# Altium footprint library SOIC.PcbLib: 20 footprints (part 1 of 2)
Each footprint in its own frame and in the unit in brackets; x right, y up, seen from the top. Pads: shape width x height; smd on the part's side, far side on the other; paste and mask are expansions set on the pad; w line width, h text height; cw(c..) or ccw(c..) is an arc to the next point about the centre after c.
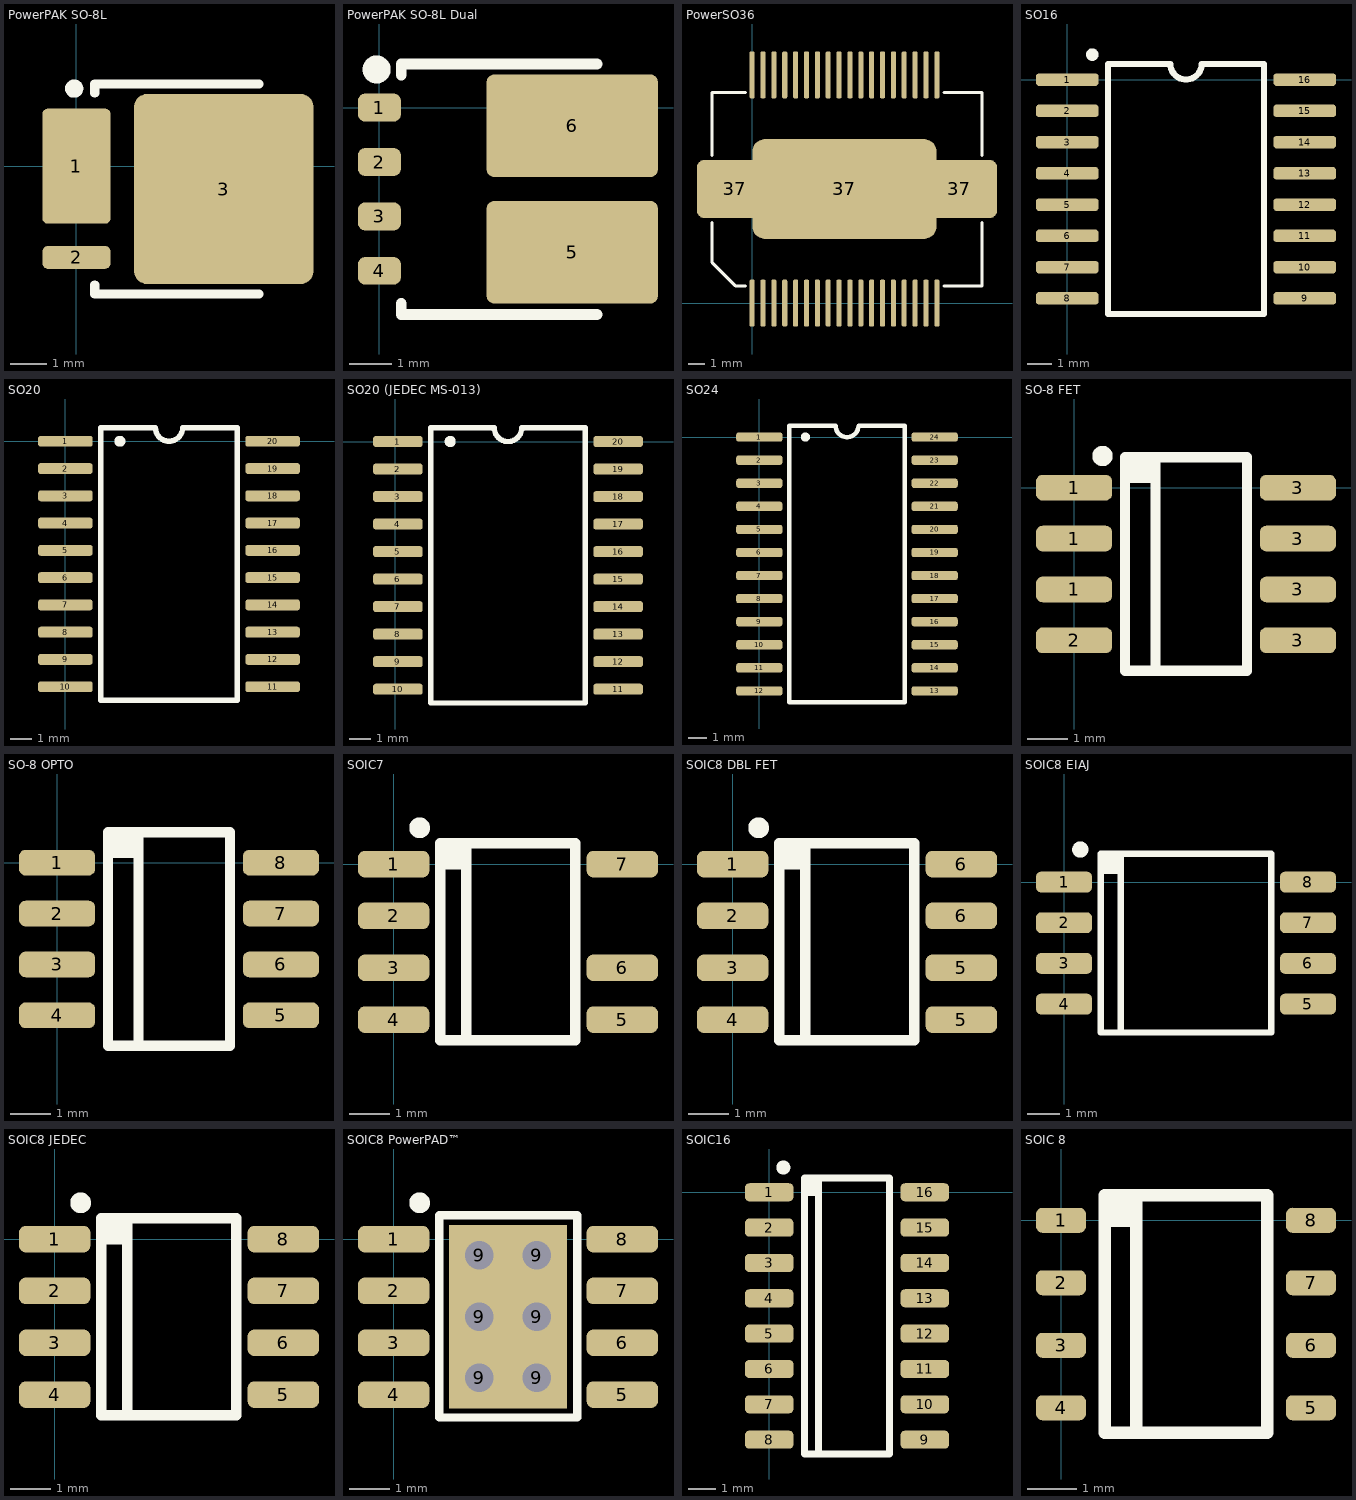
[diagram p0: the footprints below, top view; thin cyan lines are the x and y axes]

## PowerPAK SO-8L [mm]
pads (3):
  rrect15% 1.9x3.2 smd: 1(0,0)
  rrect50% 1.9x0.64 smd: 2(0,-2.54)
  rrect15% 5x5.3 smd: 3(4.1,-0.635)
Top Overlay:
  circle w0.254: c-0.065,2.159 r0.127
  lines w0.254: 0.508,-3.302 0.508,-3.556 5.08,-3.556 ; 0.508,2.032 0.508,2.286 5.08,2.286
Top Assembly:
  text ".Designator" at 2.873,-5.633 h1
3D body "SW3dPS-SOT669-CW.STEP": height 1.2, standoff 0, extent -0.45,-3.08 5.978,1.82

## PowerPAK SO-8L Dual [mm]
pads (6):
  rrect50% 1x0.65 smd: 1(0,0) 2(0,-1.27) 3(0,-2.54)
  rrect50% 1x0.64 smd: 4(0,-3.81)
  rrect15% 4x2.4 smd: 5(4.5,-3.375) 6(4.5,-0.425)
Top Overlay:
  circle w0.4: c-0.065,0.889 r0.127
  lines w0.254: 0.508,-4.572 0.508,-4.826 5.08,-4.826 ; 0.508,0.762 0.508,1.016 5.08,1.016
Top Assembly:
  text ".Designator" at 2.873,-6.903 h1
3D body "User Library-PowerPAK SO-8 (D).STEP": height 1.04, standoff 0, extent -0.1,-4.475 6.05,0.675

## PowerSO36 [mm]
height 3.6
pads (39):
  rrect50% 0.3x2.8 smd: 1(0,0) 2(0.65,0) 3(1.3,0) 4(1.95,0) 5(2.6,0) 6(3.25,0) 7(3.9,0) 8(4.55,0) 9(5.2,0) 10(5.85,0) 11(6.5,0) 12(7.15,0) 13(7.8,0) 14(8.45,0) 15(9.1,0) 16(9.75,0) 17(10.4,0) 18(11.05,0) 19(11.05,13.65) 20(10.4,13.65) 21(9.75,13.65) 22(9.1,13.65) 23(8.45,13.65) 24(7.8,13.65) 25(7.15,13.65) 26(6.5,13.65) 27(5.85,13.65) 28(5.2,13.65) 29(4.55,13.65) 30(3.9,13.65) 31(3.25,13.65) 32(2.6,13.65) 33(1.95,13.65) 34(1.3,13.65) 35(0.65,13.65) 36(0,13.65)
  rrect25% 4.5x3.5 smd: 37(-1.05,6.825) 37(12.4,6.825)
  rrect25% 11x6 smd: 37(5.525,6.825)
Top Overlay:
  lines w0.2: -2.4,4.825 -2.4,2.425 -1,1.025 -0.4,1.025 ; -2.4,8.825 -2.4,12.6 -0.4,12.6 ; 11.475,1.025 13.75,1.025 13.75,4.825 ; 11.475,12.6 13.75,12.6 13.75,8.825
Top Assembly:
  text ".Designator" at 0.527,6.492 h1
3D body "User Library-SO36.STEP": height 3.6, standoff 0.1, extent -2.3,-0.275 13.65,13.925

## SO16 [mil]
pads (16):
  rrect50% 100x20 smd: 1(0,0) 2(0,-50) 3(0,-100) 4(0,-150) 5(0,-200) 6(0,-250) 7(0,-300) 8(0,-350) 9(379.92,-350) 10(379.92,-300) 11(379.92,-250) 12(379.92,-200) 13(379.92,-150) 14(379.92,-100) 15(379.92,-50) 16(379.92,0)
Top Overlay:
  circle w10: c40,40 r5
  lines w9.84: 65,-375 315,-375 315,25 215,25 cw(c190,25) 165,25 65,25 65,-375
Top Assembly:
  text ".Designator" at 206.03,-373.95 h39.37

## SO20 [mil]
pads (20):
  rrect50% 100x20 smd: 1(0,0) 2(0,-50) 3(0,-100) 4(0,-150) 5(0,-200) 6(0,-250) 7(0,-300) 8(0,-350) 9(0,-400) 10(0,-450) 11(379.92,-450) 12(379.92,-400) 13(379.92,-350) 14(379.92,-300) 15(379.92,-250) 16(379.92,-200) 17(379.92,-150) 18(379.92,-100) 19(379.92,-50) 20(379.92,0)
Top Overlay:
  circle w10: c100,0 r5
  lines w9.84: 65,-475 315,-475 315,25 215,25 cw(c190,25) 165,25 65,25 65,-475
Top Assembly:
  text ".Designator" at 202.1,-425.13 h39.37
3D body "User Library-SOIC-20-300.STEP": height 101.38, standoff -0.98, extent -18.7,-481.1 398.62,30.71

## SO20 (JEDEC MS-013) [mil]
height 100
pads (20):
  rrect50% 90x20 smd: 1(5,0) 2(5,-50) 3(5,-100) 4(5,-150) 5(5,-200) 6(5,-250) 7(5,-300) 8(5,-350) 9(5,-400) 10(5,-450) 11(405,-450) 12(405,-400) 13(405,-350) 14(405,-300) 15(405,-250) 16(405,-200) 17(405,-150) 18(405,-100) 19(405,-50) 20(405,0)
Top Overlay:
  circle w10: c100,0 r5
  lines w9.84: 65,-475 65,25 180,25 ccw(c205,25) 230,25 345,25 345,-475 65,-475
Top Assembly:
  text ".Designator" at 217.84,-425.13 h39.37
3D body "User Library-SOIC-20-300.STEP": height 101.38, standoff -0.98, extent -3.66,-480.91 413.66,30.91

## SO24 [mil]
pads (24):
  rrect50% 100x20 smd: 1(0,0) 2(0,-50) 3(0,-100) 4(0,-150) 5(0,-200) 6(0,-250) 7(0,-300) 8(0,-350) 9(0,-400) 10(0,-450) 11(0,-500) 12(0,-550) 13(379.92,-550) 14(379.92,-500) 15(379.92,-450) 16(379.92,-400) 17(379.92,-350) 18(379.92,-300) 19(379.92,-250) 20(379.92,-200) 21(379.92,-150) 22(379.92,-100) 23(379.92,-50) 24(379.92,0)
Top Overlay:
  circle w10: c100,0 r5
  lines w9.84: 65,-575 65,25 165,25 ccw(c190,25) 215,25 315,25 315,-575 65,-575
Top Assembly:
  text ".Designator" at 202.1,-496 h39.37

## SO-8 FET [mm]
pads (8):
  rrect50% 1.9x0.64 smd: 1(0,-2.54) 1(0,-1.27) 1(0,0) 2(0,-3.81) 3(5.59,-3.81) 3(5.59,-2.54) 3(5.59,-1.27) 3(5.59,0)
Top Overlay:
  circle w0.254: c0.708,0.791 r0.127
  region: 1.27,0.127 1.905,0.127 1.905,0.762 1.27,0.762
  lines w0.254: 2.032,-4.572 2.032,0.762 ; 1.27,-4.572 1.27,0.762 4.318,0.762 4.318,-4.572 1.27,-4.572
Top Assembly:
  text ".Designator" at 3.533,-6.898 h1
3D body "User Library-IPC SO.STEP": height 1.88, standoff 0, extent -0.248,-4.39 5.808,0.56

## SO-8 OPTO [mm]
pads (8):
  rrect50% 1.9x0.64 smd: 1(0,0) 2(0,-1.27) 3(0,-2.54) 4(0,-3.81) 5(5.59,-3.81) 6(5.59,-2.54) 7(5.59,-1.27) 8(5.59,0)
Top Overlay:
  region: 1.27,0.127 1.905,0.127 1.905,0.762 1.27,0.762
  lines w0.254: 2.032,-4.572 2.032,0.762 ; 1.27,-4.572 4.318,-4.572 4.318,0.762 1.27,0.762 1.27,-4.572
Top Assembly:
  text ".Designator" at 3.533,-6.898 h1
3D body "SW3dPS-SO8-HCPL.STEP": height 3.33, standoff -0.4, extent -0.2,-4.42 5.806,0.58

## SOIC7 [mm]
pads (7):
  rrect50% 1.75x0.65 smd: 1(0,0) 2(0,-1.27) 3(0,-2.54) 4(0,-3.81) 5(5.6,-3.81) 6(5.6,-2.54) 7(5.6,0)
Top Overlay:
  circle w0.254: c0.635,0.889 r0.127
  region: 1.651,0.381 1.27,0.381 1.27,-0.127 1.651,-0.127
  lines w0.254: 1.778,-4.318 1.778,0.508 ; 1.143,-4.318 4.445,-4.318 4.445,0.508 1.143,0.508 1.143,-4.318
Top Assembly:
  text ".Designator" at 3.333,-6.898 h1
3D body "SOIC-7.STEP": height 1.75, standoff 0, extent -0.2,-4.35 5.8,0.55

## SOIC8 DBL FET [mm]
pads (8):
  rrect50% 1.75x0.65 smd: 1(0,0) 2(0,-1.27) 3(0,-2.54) 4(0,-3.81) 5(5.6,-3.81) 5(5.6,-2.54) 6(5.6,-1.27) 6(5.6,0)
Top Overlay:
  circle w0.254: c0.635,0.889 r0.127
  region: 1.651,0.381 1.27,0.381 1.27,-0.127 1.651,-0.127
  lines w0.254: 1.778,-4.318 1.778,0.508 ; 1.143,-4.318 1.143,0.508 4.445,0.508 4.445,-4.318 1.143,-4.318
Top Assembly:
  text ".Designator" at 3.433,-6.898 h1
3D body "User Library-IPC SO.STEP": height 1.88, standoff 0, extent -0.248,-4.39 5.808,0.56

## SOIC8 EIAJ [mm]
pads (8):
  rrect50% 1.75x0.65 smd: 1(0,0) 2(0,-1.27) 3(0,-2.54) 4(0,-3.81) 5(7.62,-3.81) 6(7.62,-2.54) 7(7.62,-1.27) 8(7.62,0)
Top Overlay:
  circle w0.254: c0.508,1.016 r0.127
  region: 1.778,0.889 1.143,0.889 1.143,0.254 1.778,0.254
  lines w0.2: 1.778,-4.699 1.778,0.889 ; 1.143,-4.699 6.477,-4.699 6.477,0.889 1.143,0.889 1.143,-4.699
Top Assembly:
  text ".Designator" at 4.433,-6.898 h1
3D body "SW3dPS-SOIC8_(ATTINY12).STEP": height 2.32, standoff 0, extent -0.386,-4.6 8.006,0.78

## SOIC8 JEDEC [mm]
pads (8):
  rrect50% 1.75x0.65 smd: 1(0,0) 2(0,-1.27) 3(0,-2.54) 4(0,-3.81) 5(5.6,-3.81) 6(5.6,-2.54) 7(5.6,-1.27) 8(5.6,0)
Top Overlay:
  circle w0.254: c0.635,0.889 r0.127
  region: 1.651,0.381 1.27,0.381 1.27,-0.127 1.651,-0.127
  lines w0.254: 1.778,-4.318 1.778,0.508 ; 1.143,-4.318 1.143,0.508 4.445,0.508 4.445,-4.318 1.143,-4.318
Top Assembly:
  text ".Designator" at 3.333,-6.898 h1
3D body "User Library-IPC SO.STEP": height 1.88, standoff 0, extent -0.248,-4.39 5.808,0.56

## SOIC8 PowerPAD™ [mm]
pads (14):
  rrect50% 1.75x0.65 smd: 1(0,0) 2(0,-1.27) 3(0,-2.54) 4(0,-3.81) 5(5.6,-3.81) 6(5.6,-2.54) 7(5.6,-1.27) 8(5.6,0)
  rect 1.5x1.5 hole 0.7: 9(2.1,-3.4) 9(2.1,-1.9) 9(2.1,-0.4) 9(3.5,-3.4) 9(3.5,-1.9) 9(3.5,-0.4)
Top Overlay:
  circle w0.254: c0.635,0.889 r0.127
  lines w0.2: 1.118,-4.369 1.118,0.584 4.496,0.584 4.496,-4.369 1.118,-4.369
Top Assembly:
  text ".Designator" at 3.083,-6.898 h1
3D body "User Library-IPC SO.STEP": height 1.88, standoff 0, extent -0.248,-4.39 5.808,0.56

## SOIC16 [mm]
pads (16):
  rrect50% 1.75x0.65 smd: 1(0,0) 2(0,-1.27) 3(0,-2.54) 4(0,-3.81) 5(0,-5.08) 6(0,-6.35) 7(0,-7.62) 8(0,-8.89) 9(5.59,-8.89) 10(5.59,-7.62) 11(5.59,-6.35) 12(5.59,-5.08) 13(5.59,-3.81) 14(5.59,-2.54) 15(5.59,-1.27) 16(5.59,0)
Top Overlay:
  circle w0.254: c0.508,0.889 r0.127
  region: 1.651,0.381 1.397,0.381 1.397,-0.127 1.651,-0.127
  lines w0.254: 1.778,-9.398 1.778,0.508 ; 1.27,-9.398 4.318,-9.398 4.318,0.508 1.27,0.508 1.27,-9.398
Top Assembly:
  text ".Designator" at 3.333,-9.398 h1
3D body "SOIC 16.STEP": height 1.9, standoff 0, extent -0.258,-9.45 5.798,0.55

## SOIC 8 [mil]
pads (8):
  rrect50% 40x20 smd: 1(0,0) 2(0,-50) 3(0,-100) 4(0,-150) 5(200,-150) 6(200,-100) 7(200,-50) 8(200,0)
Top Overlay:
  region: 60,20 35,20 35,-5 60,-5
  lines w10: 60,-170 60,20 ; 35,-170 165,-170 165,20 35,20 35,-170
Top Assembly:
  text ".Designator" at 123.36,-271.59 h39.37